# EAGLE library part MAX25603AUI_V+ (library MAX25603AUI_V+)
Automotive Four-Switch Buck-Boost LED Controller for Combination Head Lights Source: Datasheet <https://www.analog.com/MAX25603/datasheet>
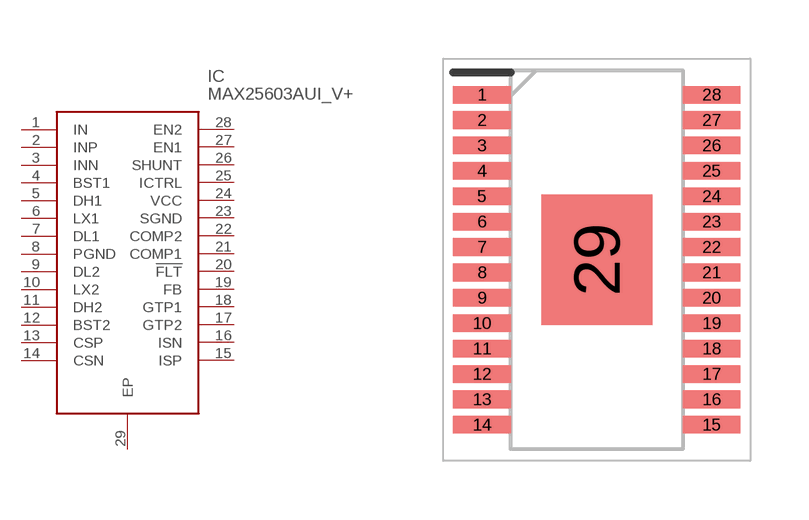
[diagram p0: symbol with the pads of SOP65P640X110-29N; footprint SOP65P640X110-29N]

Designator prefix IC

## MAX25603AUI_V+ (Description: Automotive Four-Switch Buck-Boost LED Controller for Combination Head Lights; Height: 1.1mm; Manufacturer_Name: Analog Devices; Manufacturer_Part_Number: MAX25603AUI/V+; Mouser_Part_Number: 700-MAX25603AUI/V+; Mouser_Price-Stock: https://www.mouser.co.uk/ProductDetail/Analog-Devices-Maxim-Integrated/MAX25603AUI-V%2b?qs=doiCPypUmgFX06DpQbFwEw%3D%3D)  [SOP65P640X110-29N]
1  IN
2  INP
3  INN
4  BST1
5  DH1
6  LX1
7  DL1
8  PGND
9  DL2
10  LX2
11  DH2
12  BST2
13  CSP
14  CSN
15  ISP
16  ISN
17  GTP2
18  GTP1
19  FB
20  !FLT
21  COMP1
22  COMP2
23  SGND
24  VCC
25  ICTRL
26  SHUNT
27  EN1
28  EN2
29  EP

## Footprint SOP65P640X110-29N (pad centres in mm)
U28E+1C
smd 1.475 x 0.45: 1 -2.938,4.225; 2 -2.938,3.575; 3 -2.938,2.925; 4 -2.938,2.275; 5 -2.938,1.625; 6 -2.938,0.975; 7 -2.938,0.325; 8 -2.938,-0.325; 9 -2.938,-0.975; 10 -2.938,-1.625; 11 -2.938,-2.275; 12 -2.938,-2.925; 13 -2.938,-3.575; 14 -2.938,-4.225; 15 2.938,-4.225; 16 2.938,-3.575; 17 2.938,-2.925; 18 2.938,-2.275; 19 2.938,-1.625; 20 2.938,-0.975; 21 2.938,-0.325; 22 2.938,0.325; 23 2.938,0.975; 24 2.938,1.625; 25 2.938,2.275; 26 2.938,2.925; 27 2.938,3.575; 28 2.938,4.225
smd 2.84 x 3.35: 29 0,0